# Altium footprint library node.PcbLib: 75 footprints (part 3 of 5)
Each footprint in its own frame and in the unit in brackets; x right, y up, seen from the top. Pads: shape width x height; smd on the part's side, far side on the other; paste and mask are expansions set on the pad; w line width, h text height; cw(c..) or ccw(c..) is an arc to the next point about the centre after c.
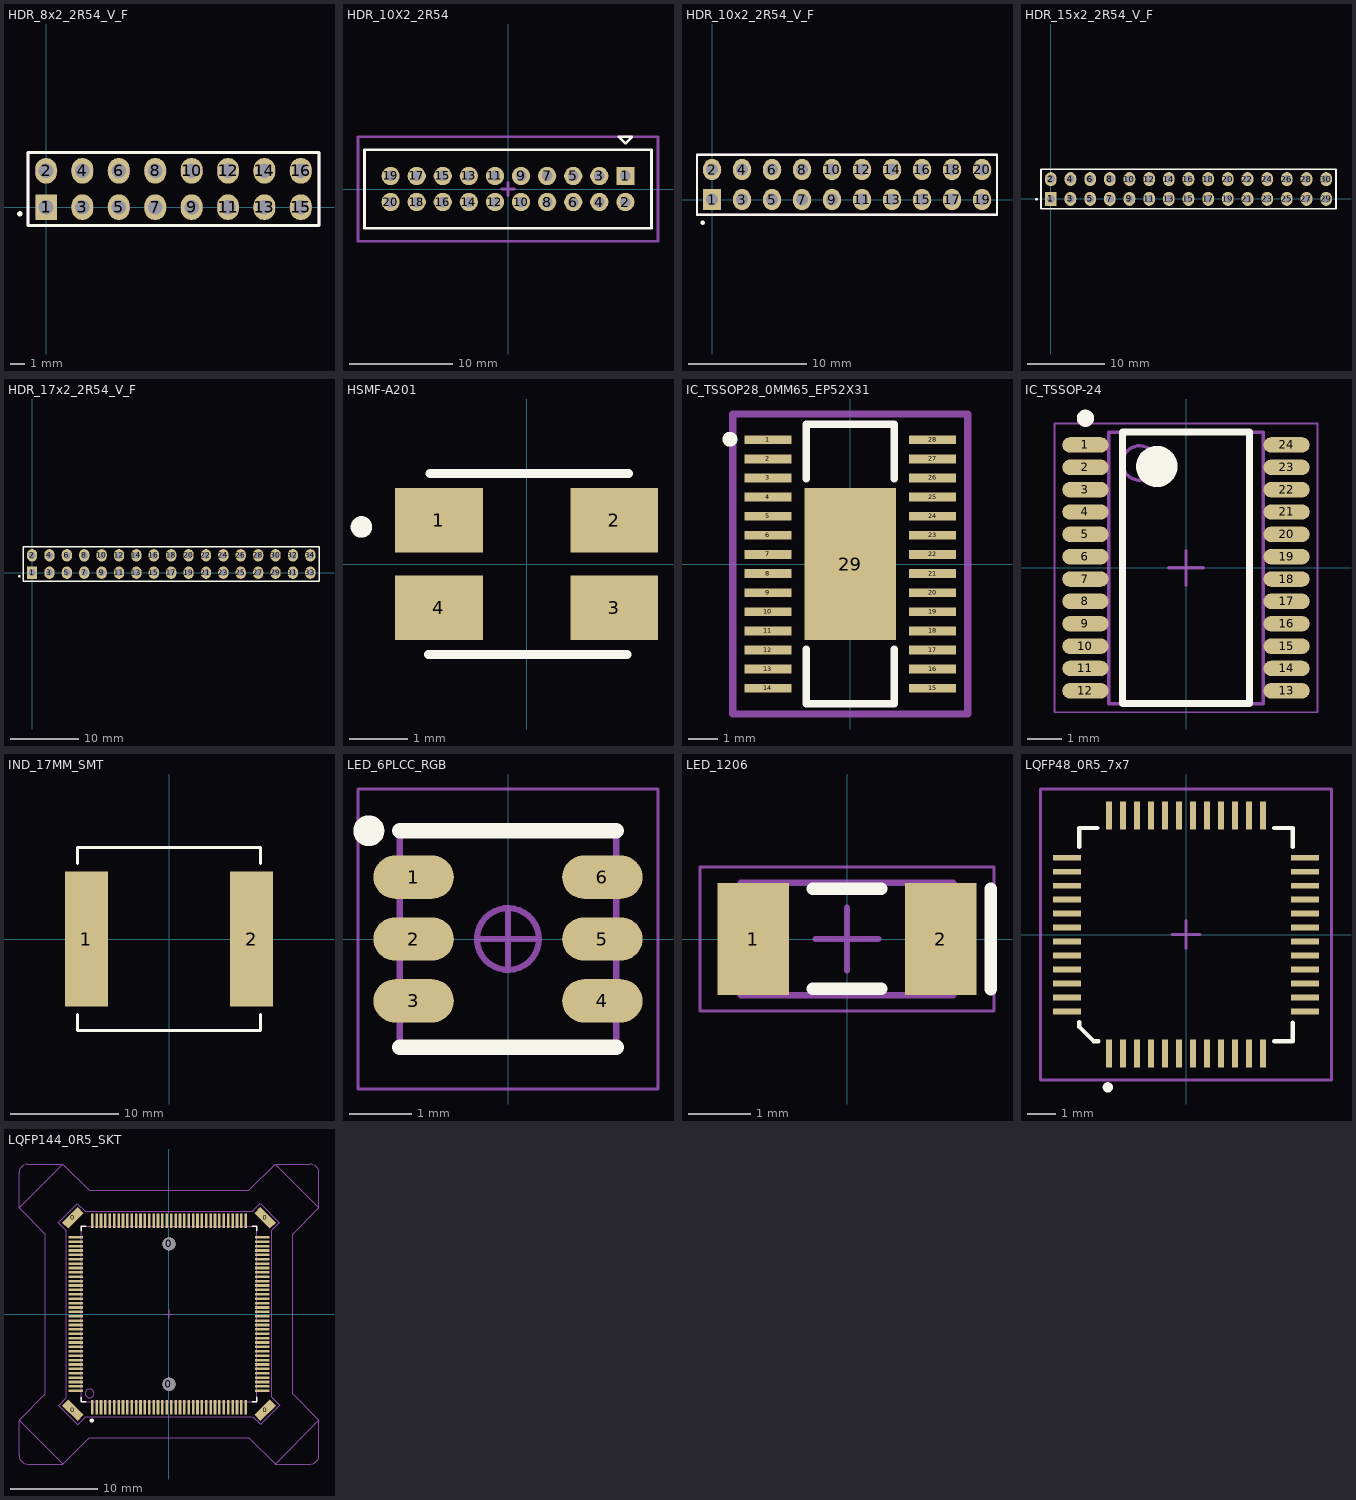
[diagram p2: the footprints below, top view; thin cyan lines are the x and y axes]

## HDR_8x2_2R54_V_F [mm] "Female Header, Pitch 2.54mm, 2x8 Position, Mated Height 6mm, Tail Length 3mm"
height 6
pads (16):
  rect 1.5x1.8 hole 1.02: 1(0,0)
  oval 1.5x1.8 hole 1.02: 2(0,2.54) 3(2.54,0) 4(2.54,2.54) 5(5.08,0) 6(5.08,2.54) 7(7.62,0) 8(7.62,2.54) 9(10.16,0) 10(10.16,2.54) 11(12.7,0) 12(12.7,2.54) 13(15.24,0) 14(15.24,2.54) 15(17.78,0) 16(17.78,2.54)
Top Overlay:
  circle w0.25: c-1.829,-0.465 r0.059
  lines w0.2: -1.27,-1.27 -1.27,3.81 19.05,3.81 19.05,-1.27 -1.27,-1.27
Mechanical 7:
  circle w0.2: c15.24,2.54 r0.684
  circle w0.2: c17.78,2.54 r0.684
  circle w0.2: c17.78,0 r0.684
  circle w0.2: c15.24,0 r0.684
  circle w0.2: c2.54,0 r0.684
  circle w0.2: c5.08,0 r0.684
  circle w0.2: c7.62,0 r0.684
  circle w0.2: c10.16,0 r0.684
  circle w0.2: c12.7,0 r0.684
  circle w0.2: c12.7,2.54 r0.684
  circle w0.2: c10.16,2.54 r0.684
  circle w0.2: c7.62,2.54 r0.684
  circle w0.2: c5.08,2.54 r0.684
  circle w0.2: c2.54,2.54 r0.684
  circle w0.2: c0,2.54 r0.684
  lines w0.2: -1.27,-1.27 -1.27,3.81 19.05,3.81 19.05,-1.27 -1.27,-1.27 ; -0.635,-0.635 -0.635,0.635 0.635,0.635 0.635,-0.635 -0.635,-0.635
3D body: height 2.54, standoff -10, extent 14.891,-0.349 15.589,0.349
3D body: height 8.64, standoff 0, extent 13.972,-1.27 16.512,1.27
3D body: height 2.54, standoff -10, extent 14.891,2.191 15.589,2.889
3D body: height 8.64, standoff 0, extent 13.972,1.27 16.512,3.81
3D body: height 2.54, standoff -10, extent 17.431,2.191 18.129,2.889
3D body: height 8.64, standoff 0, extent 16.512,1.27 19.052,3.81
3D body: height 2.54, standoff -10, extent 17.431,-0.349 18.129,0.349
3D body: height 8.64, standoff 0, extent 16.512,-1.27 19.052,1.27
3D body: height 8.64, standoff 0, extent 11.432,-1.27 13.972,1.27
3D body: height 2.54, standoff -10, extent 12.351,-0.349 13.049,0.349
3D body: height 8.64, standoff 0, extent 11.432,1.27 13.972,3.81
3D body: height 2.54, standoff -10, extent 12.351,2.191 13.049,2.889
3D body: height 8.64, standoff 0, extent 8.892,1.27 11.432,3.81
3D body: height 2.54, standoff -10, extent 9.811,2.191 10.509,2.889
3D body: height 8.64, standoff 0, extent 8.892,-1.27 11.432,1.27
3D body: height 2.54, standoff -10, extent 9.811,-0.349 10.509,0.349
3D body: height 8.64, standoff 0, extent 6.352,-1.27 8.892,1.27
3D body: height 2.54, standoff -10, extent 7.271,-0.349 7.969,0.349
3D body: height 8.64, standoff 0, extent 6.352,1.27 8.892,3.81
3D body: height 2.54, standoff -10, extent 7.271,2.191 7.969,2.889
3D body: height 8.64, standoff 0, extent 3.812,-1.27 6.352,1.27
3D body: height 2.54, standoff -10, extent 4.731,-0.349 5.429,0.349
3D body: height 8.64, standoff 0, extent 3.812,1.27 6.352,3.81
3D body: height 2.54, standoff -10, extent 4.731,2.191 5.429,2.889
3D body: height 8.64, standoff 0, extent 1.272,-1.27 3.812,1.27
3D body: height 2.54, standoff -10, extent 2.191,-0.349 2.889,0.349
3D body: height 8.64, standoff 0, extent 1.272,1.27 3.812,3.81
3D body: height 2.54, standoff -10, extent 2.191,2.191 2.889,2.889
3D body: height 8.64, standoff 0, extent -1.268,1.27 1.272,3.81
3D body: height 2.54, standoff -10, extent -0.349,2.191 0.349,2.889
3D body: height 8.64, standoff 0, extent -1.268,-1.27 1.272,1.27
3D body: height 2.54, standoff -10, extent -0.349,-0.349 0.349,0.349

## HDR_10X2_2R54 [mil]
pads (20):
  rect 70x70 hole 40: 1(450,50)
  round 70 hole 40: 2(450,-50) 3(350,50) 4(350,-50) 5(250,50) 6(250,-50) 7(150,50) 8(150,-50) 9(50,50) 10(50,-50) 11(-50,50) 12(-50,-50) 13(-150,50) 14(-150,-50) 15(-250,50) 16(-250,-50) 17(-350,50) 18(-350,-50) 19(-450,50) 20(-450,-50)
Top Overlay:
  lines w10: -550,-150 -550,150 550,150 550,-150 -550,-150 ; 425,200 450,175 475,200 425,200
M15 (Courtyard):
  lines w10: -25,0 25,0 ; 0,-25 0,25 ; -575,-200 575,-200 575,200 -575,200 -575,-200
3D body "HDR-20POS-SHROUDED-6272.stp": height 434.57, standoff -108.74, extent -553.54,-191.92 553.55,191.94

## HDR_10x2_2R54_V_F [mm] "Female Header, Pitch 2.54mm, 2x8 Position, Mated Height 6mm, Tail Length 3mm"
height 6
pads (20):
  rect 1.5x1.8 hole 1.02: 1(0,0)
  oval 1.5x1.8 hole 1.02: 2(0,2.54) 3(2.54,0) 4(2.54,2.54) 5(5.08,0) 6(5.08,2.54) 7(7.62,0) 8(7.62,2.54) 9(10.16,0) 10(10.16,2.54) 11(12.7,0) 12(12.7,2.54) 13(15.24,0) 14(15.24,2.54) 15(17.78,0) 16(17.78,2.54) 17(20.32,0) 18(20.32,2.54) 19(22.86,0) 20(22.86,2.54)
Top Overlay:
  circle w0.25: c-0.787,-1.96 r0.059
  lines w0.2: -1.27,-1.27 24.13,-1.27 24.13,3.81 -1.27,3.81 -1.27,-1.27
Mechanical 7:
  circle w0.2: c22.86,0 r0.684
  circle w0.2: c22.86,2.54 r0.684
  circle w0.2: c0,2.54 r0.684
  circle w0.2: c2.54,2.54 r0.684
  circle w0.2: c5.08,2.54 r0.684
  circle w0.2: c7.62,2.54 r0.684
  circle w0.2: c10.16,2.54 r0.684
  circle w0.2: c12.7,2.54 r0.684
  circle w0.2: c12.7,0 r0.684
  circle w0.2: c10.16,0 r0.684
  circle w0.2: c7.62,0 r0.684
  circle w0.2: c5.08,0 r0.684
  circle w0.2: c2.54,0 r0.684
  circle w0.2: c15.24,0 r0.684
  circle w0.2: c17.78,0 r0.684
  circle w0.2: c17.78,2.54 r0.684
  circle w0.2: c15.24,2.54 r0.684
  circle w0.2: c20.32,2.54 r0.684
  circle w0.2: c20.32,0 r0.684
  lines w0.2: -1.27,-1.27 24.13,-1.27 24.13,3.81 -1.27,3.81 -1.27,-1.27 ; -0.635,-0.635 0.635,-0.635 0.635,0.635 -0.635,0.635 -0.635,-0.635
3D body: height 8.64, standoff 0, extent 21.592,-1.27 24.132,1.27
3D body: height 2.54, standoff -10, extent 22.511,-0.349 23.209,0.349
3D body: height 8.64, standoff 0, extent 21.592,1.27 24.132,3.81
3D body: height 2.54, standoff -10, extent 22.511,2.191 23.209,2.889
3D body: height 2.54, standoff -10, extent -0.349,-0.349 0.349,0.349
3D body: height 8.64, standoff 0, extent -1.268,-1.27 1.272,1.27
3D body: height 2.54, standoff -10, extent -0.349,2.191 0.349,2.889
3D body: height 8.64, standoff 0, extent -1.268,1.27 1.272,3.81
3D body: height 2.54, standoff -10, extent 2.191,2.191 2.889,2.889
3D body: height 8.64, standoff 0, extent 1.272,1.27 3.812,3.81
3D body: height 2.54, standoff -10, extent 2.191,-0.349 2.889,0.349
3D body: height 8.64, standoff 0, extent 1.272,-1.27 3.812,1.27
3D body: height 2.54, standoff -10, extent 4.731,2.191 5.429,2.889
3D body: height 8.64, standoff 0, extent 3.812,1.27 6.352,3.81
3D body: height 2.54, standoff -10, extent 4.731,-0.349 5.429,0.349
3D body: height 8.64, standoff 0, extent 3.812,-1.27 6.352,1.27
3D body: height 2.54, standoff -10, extent 7.271,2.191 7.969,2.889
3D body: height 8.64, standoff 0, extent 6.352,1.27 8.892,3.81
3D body: height 2.54, standoff -10, extent 7.271,-0.349 7.969,0.349
3D body: height 8.64, standoff 0, extent 6.352,-1.27 8.892,1.27
3D body: height 2.54, standoff -10, extent 9.811,-0.349 10.509,0.349
3D body: height 8.64, standoff 0, extent 8.892,-1.27 11.432,1.27
3D body: height 2.54, standoff -10, extent 9.811,2.191 10.509,2.889
3D body: height 8.64, standoff 0, extent 8.892,1.27 11.432,3.81
3D body: height 2.54, standoff -10, extent 12.351,2.191 13.049,2.889
3D body: height 8.64, standoff 0, extent 11.432,1.27 13.972,3.81
3D body: height 2.54, standoff -10, extent 12.351,-0.349 13.049,0.349
3D body: height 8.64, standoff 0, extent 11.432,-1.27 13.972,1.27
3D body: height 8.64, standoff 0, extent 16.512,-1.27 19.052,1.27
3D body: height 2.54, standoff -10, extent 17.431,-0.349 18.129,0.349
3D body: height 8.64, standoff 0, extent 16.512,1.27 19.052,3.81
3D body: height 2.54, standoff -10, extent 17.431,2.191 18.129,2.889
3D body: height 8.64, standoff 0, extent 13.972,1.27 16.512,3.81
3D body: height 2.54, standoff -10, extent 14.891,2.191 15.589,2.889
3D body: height 8.64, standoff 0, extent 13.972,-1.27 16.512,1.27
3D body: height 2.54, standoff -10, extent 14.891,-0.349 15.589,0.349
3D body: height 2.54, standoff -10, extent 19.971,2.191 20.669,2.889
3D body: height 8.64, standoff 0, extent 19.052,1.27 21.592,3.81
3D body: height 2.54, standoff -10, extent 19.971,-0.349 20.669,0.349
3D body: height 8.64, standoff 0, extent 19.052,-1.27 21.592,1.27

## HDR_15x2_2R54_V_F [mm] "Female Header, Pitch 2.54mm, 2x15 Position, Mated Height 6mm, Tail Length 3mm"
height 6
pads (30):
  rect 1.5x1.8 hole 1.02: 1(0,0)
  oval 1.5x1.8 hole 1.02: 2(0,2.54) 3(2.54,0) 4(2.54,2.54) 5(5.08,0) 6(5.08,2.54) 7(7.62,0) 8(7.62,2.54) 9(10.16,0) 10(10.16,2.54) 11(12.7,0) 12(12.7,2.54) 13(15.24,0) 14(15.24,2.54) 15(17.78,0) 16(17.78,2.54) 17(20.32,0) 18(20.32,2.54) 19(22.86,0) 20(22.86,2.54) 21(25.4,0) 22(25.4,2.54) 23(27.94,0) 24(27.94,2.54) 25(30.48,0) 26(30.48,2.54) 27(33.02,0) 28(33.02,2.54) 29(35.56,0) 30(35.56,2.54)
Top Overlay:
  circle w0.25: c-1.854,-0.059 r0.059
  lines w0.2: -1.27,-1.27 -1.27,3.81 36.83,3.81 36.83,-1.27 -1.27,-1.27
3D body: height 8.64, standoff 0, extent 34.292,-1.27 36.832,1.27
3D body: height 2.54, standoff -10, extent 35.211,-0.349 35.909,0.349
3D body: height 8.64, standoff 0, extent 34.292,1.27 36.832,3.81
3D body: height 2.54, standoff -10, extent 35.211,2.191 35.909,2.889
3D body: height 2.54, standoff -10, extent 25.051,2.191 25.749,2.889
3D body: height 8.64, standoff 0, extent 24.132,1.27 26.672,3.81
3D body: height 2.54, standoff -10, extent 25.051,-0.349 25.749,0.349
3D body: height 8.64, standoff 0, extent 24.132,-1.27 26.672,1.27
3D body: height 8.64, standoff 0, extent 29.212,-1.27 31.752,1.27
3D body: height 2.54, standoff -10, extent 30.131,-0.349 30.829,0.349
3D body: height 8.64, standoff 0, extent 29.212,1.27 31.752,3.81
3D body: height 2.54, standoff -10, extent 30.131,2.191 30.829,2.889
3D body: height 8.64, standoff 0, extent 26.672,1.27 29.212,3.81
3D body: height 2.54, standoff -10, extent 27.591,2.191 28.289,2.889
3D body: height 8.64, standoff 0, extent 26.672,-1.27 29.212,1.27
3D body: height 2.54, standoff -10, extent 27.591,-0.349 28.289,0.349
3D body: height 2.54, standoff -10, extent 32.671,2.191 33.369,2.889
3D body: height 8.64, standoff 0, extent 31.752,1.27 34.292,3.81
3D body: height 2.54, standoff -10, extent 32.671,-0.349 33.369,0.349
3D body: height 8.64, standoff 0, extent 31.752,-1.27 34.292,1.27
3D body: height 8.64, standoff 0, extent 19.052,-1.27 21.592,1.27
3D body: height 2.54, standoff -10, extent 19.971,-0.349 20.669,0.349
3D body: height 8.64, standoff 0, extent 19.052,1.27 21.592,3.81
3D body: height 2.54, standoff -10, extent 19.971,2.191 20.669,2.889
3D body: height 2.54, standoff -10, extent 14.891,-0.349 15.589,0.349
3D body: height 8.64, standoff 0, extent 13.972,-1.27 16.512,1.27
3D body: height 2.54, standoff -10, extent 14.891,2.191 15.589,2.889
3D body: height 8.64, standoff 0, extent 13.972,1.27 16.512,3.81
3D body: height 2.54, standoff -10, extent 17.431,2.191 18.129,2.889
3D body: height 8.64, standoff 0, extent 16.512,1.27 19.052,3.81
3D body: height 2.54, standoff -10, extent 17.431,-0.349 18.129,0.349
3D body: height 8.64, standoff 0, extent 16.512,-1.27 19.052,1.27
3D body: height 8.64, standoff 0, extent 11.432,-1.27 13.972,1.27
3D body: height 2.54, standoff -10, extent 12.351,-0.349 13.049,0.349
3D body: height 8.64, standoff 0, extent 11.432,1.27 13.972,3.81
3D body: height 2.54, standoff -10, extent 12.351,2.191 13.049,2.889
3D body: height 8.64, standoff 0, extent 8.892,1.27 11.432,3.81
3D body: height 2.54, standoff -10, extent 9.811,2.191 10.509,2.889
3D body: height 8.64, standoff 0, extent 8.892,-1.27 11.432,1.27
3D body: height 2.54, standoff -10, extent 9.811,-0.349 10.509,0.349
3D body: height 8.64, standoff 0, extent 6.352,-1.27 8.892,1.27
3D body: height 2.54, standoff -10, extent 7.271,-0.349 7.969,0.349
3D body: height 8.64, standoff 0, extent 6.352,1.27 8.892,3.81
3D body: height 2.54, standoff -10, extent 7.271,2.191 7.969,2.889
3D body: height 8.64, standoff 0, extent 3.812,-1.27 6.352,1.27
3D body: height 2.54, standoff -10, extent 4.731,-0.349 5.429,0.349
3D body: height 8.64, standoff 0, extent 3.812,1.27 6.352,3.81
3D body: height 2.54, standoff -10, extent 4.731,2.191 5.429,2.889
3D body: height 8.64, standoff 0, extent 1.272,-1.27 3.812,1.27
3D body: height 2.54, standoff -10, extent 2.191,-0.349 2.889,0.349
3D body: height 8.64, standoff 0, extent 1.272,1.27 3.812,3.81
3D body: height 2.54, standoff -10, extent 2.191,2.191 2.889,2.889
3D body: height 8.64, standoff 0, extent -1.268,1.27 1.272,3.81
3D body: height 2.54, standoff -10, extent -0.349,2.191 0.349,2.889
3D body: height 8.64, standoff 0, extent -1.268,-1.27 1.272,1.27
3D body: height 2.54, standoff -10, extent -0.349,-0.349 0.349,0.349
3D body: height 2.54, standoff -10, extent 22.511,2.191 23.209,2.889
3D body: height 8.64, standoff 0, extent 21.592,1.27 24.132,3.81
3D body: height 2.54, standoff -10, extent 22.511,-0.349 23.209,0.349
3D body: height 8.64, standoff 0, extent 21.592,-1.27 24.132,1.27

## HDR_17x2_2R54_V_F [mm] "Female Header, Pitch 2.54mm, 2x17 Position, Mated Height 6mm, Tail Length 3mm"
height 6
pads (34):
  rect 1.5x1.8 hole 1.02: 1(0,0)
  oval 1.5x1.8 hole 1.02: 2(0,2.54) 3(2.54,0) 4(2.54,2.54) 5(5.08,0) 6(5.08,2.54) 7(7.62,0) 8(7.62,2.54) 9(10.16,0) 10(10.16,2.54) 11(12.7,0) 12(12.7,2.54) 13(15.24,0) 14(15.24,2.54) 15(17.78,0) 16(17.78,2.54) 17(20.32,0) 18(20.32,2.54) 19(22.86,0) 20(22.86,2.54) 21(25.4,0) 22(25.4,2.54) 23(27.94,0) 24(27.94,2.54) 25(30.48,0) 26(30.48,2.54) 27(33.02,0) 28(33.02,2.54) 29(35.56,0) 30(35.56,2.54) 31(38.1,0) 32(38.1,2.54) 33(40.64,0) 34(40.64,2.54)
Top Overlay:
  circle w0.25: c-1.854,-0.516 r0.059
  lines w0.2: -1.27,-1.27 41.91,-1.27 41.91,3.81 -1.27,3.81 -1.27,-1.27
3D body: height 8.64, standoff 0, extent 39.372,-1.27 41.912,1.27
3D body: height 2.54, standoff -10, extent 40.291,-0.349 40.989,0.349
3D body: height 8.64, standoff 0, extent 39.372,1.27 41.912,3.81
3D body: height 2.54, standoff -10, extent 40.291,2.191 40.989,2.889
3D body: height 2.54, standoff -10, extent 37.751,2.191 38.449,2.889
3D body: height 8.64, standoff 0, extent 36.832,1.27 39.372,3.81
3D body: height 2.54, standoff -10, extent 37.751,-0.349 38.449,0.349
3D body: height 8.64, standoff 0, extent 36.832,-1.27 39.372,1.27
3D body: height 8.64, standoff 0, extent 21.592,-1.27 24.132,1.27
3D body: height 2.54, standoff -10, extent 22.511,-0.349 23.209,0.349
3D body: height 8.64, standoff 0, extent 21.592,1.27 24.132,3.81
3D body: height 2.54, standoff -10, extent 22.511,2.191 23.209,2.889
3D body: height 2.54, standoff -10, extent -0.349,-0.349 0.349,0.349
3D body: height 8.64, standoff 0, extent -1.268,-1.27 1.272,1.27
3D body: height 2.54, standoff -10, extent -0.349,2.191 0.349,2.889
3D body: height 8.64, standoff 0, extent -1.268,1.27 1.272,3.81
3D body: height 2.54, standoff -10, extent 2.191,2.191 2.889,2.889
3D body: height 8.64, standoff 0, extent 1.272,1.27 3.812,3.81
3D body: height 2.54, standoff -10, extent 2.191,-0.349 2.889,0.349
3D body: height 8.64, standoff 0, extent 1.272,-1.27 3.812,1.27
3D body: height 2.54, standoff -10, extent 4.731,2.191 5.429,2.889
3D body: height 8.64, standoff 0, extent 3.812,1.27 6.352,3.81
3D body: height 2.54, standoff -10, extent 4.731,-0.349 5.429,0.349
3D body: height 8.64, standoff 0, extent 3.812,-1.27 6.352,1.27
3D body: height 2.54, standoff -10, extent 7.271,2.191 7.969,2.889
3D body: height 8.64, standoff 0, extent 6.352,1.27 8.892,3.81
3D body: height 2.54, standoff -10, extent 7.271,-0.349 7.969,0.349
3D body: height 8.64, standoff 0, extent 6.352,-1.27 8.892,1.27
3D body: height 2.54, standoff -10, extent 9.811,-0.349 10.509,0.349
3D body: height 8.64, standoff 0, extent 8.892,-1.27 11.432,1.27
3D body: height 2.54, standoff -10, extent 9.811,2.191 10.509,2.889
3D body: height 8.64, standoff 0, extent 8.892,1.27 11.432,3.81
3D body: height 2.54, standoff -10, extent 12.351,2.191 13.049,2.889
3D body: height 8.64, standoff 0, extent 11.432,1.27 13.972,3.81
3D body: height 2.54, standoff -10, extent 12.351,-0.349 13.049,0.349
3D body: height 8.64, standoff 0, extent 11.432,-1.27 13.972,1.27
3D body: height 8.64, standoff 0, extent 16.512,-1.27 19.052,1.27
3D body: height 2.54, standoff -10, extent 17.431,-0.349 18.129,0.349
3D body: height 8.64, standoff 0, extent 16.512,1.27 19.052,3.81
3D body: height 2.54, standoff -10, extent 17.431,2.191 18.129,2.889
3D body: height 8.64, standoff 0, extent 13.972,1.27 16.512,3.81
3D body: height 2.54, standoff -10, extent 14.891,2.191 15.589,2.889
3D body: height 8.64, standoff 0, extent 13.972,-1.27 16.512,1.27
3D body: height 2.54, standoff -10, extent 14.891,-0.349 15.589,0.349
3D body: height 2.54, standoff -10, extent 19.971,2.191 20.669,2.889
3D body: height 8.64, standoff 0, extent 19.052,1.27 21.592,3.81
3D body: height 2.54, standoff -10, extent 19.971,-0.349 20.669,0.349
3D body: height 8.64, standoff 0, extent 19.052,-1.27 21.592,1.27
3D body: height 8.64, standoff 0, extent 31.752,-1.27 34.292,1.27
3D body: height 2.54, standoff -10, extent 32.671,-0.349 33.369,0.349
3D body: height 8.64, standoff 0, extent 31.752,1.27 34.292,3.81
3D body: height 2.54, standoff -10, extent 32.671,2.191 33.369,2.889
3D body: height 2.54, standoff -10, extent 27.591,-0.349 28.289,0.349
3D body: height 8.64, standoff 0, extent 26.672,-1.27 29.212,1.27
3D body: height 2.54, standoff -10, extent 27.591,2.191 28.289,2.889
3D body: height 8.64, standoff 0, extent 26.672,1.27 29.212,3.81
3D body: height 2.54, standoff -10, extent 30.131,2.191 30.829,2.889
3D body: height 8.64, standoff 0, extent 29.212,1.27 31.752,3.81
3D body: height 2.54, standoff -10, extent 30.131,-0.349 30.829,0.349
3D body: height 8.64, standoff 0, extent 29.212,-1.27 31.752,1.27
3D body: height 8.64, standoff 0, extent 24.132,-1.27 26.672,1.27
3D body: height 2.54, standoff -10, extent 25.051,-0.349 25.749,0.349
3D body: height 8.64, standoff 0, extent 24.132,1.27 26.672,3.81
3D body: height 2.54, standoff -10, extent 25.051,2.191 25.749,2.889
3D body: height 2.54, standoff -10, extent 35.211,2.191 35.909,2.889
3D body: height 8.64, standoff 0, extent 34.292,1.27 36.832,3.81
3D body: height 2.54, standoff -10, extent 35.211,-0.349 35.909,0.349
3D body: height 8.64, standoff 0, extent 34.292,-1.27 36.832,1.27

## HSMF-A201 [mm] "LED"
height 1.2
pads (4):
  rect 1.5x1.1 smd: 1(-1.5,0.75) 2(1.5,0.75) 3(1.5,-0.75) 4(-1.5,-0.75)
Top Overlay:
  circle w0.25: c-2.827,0.635 r0.059
  lines w0.152: -1.676,-1.549 1.724,-1.549 ; -1.651,1.549 1.749,1.549
3D body: height 1.2, standoff 0.1, extent -1.6,-1.4 1.6,1.4

## IC_TSSOP28_0MM65_EP52X31 [mm]
height 1.2
pads (29):
  rect 1.6x0.3 smd: 1(-2.8,4.225) 2(-2.8,3.575) 3(-2.8,2.925) 4(-2.8,2.275) 5(-2.8,1.625) 6(-2.8,0.975) 7(-2.8,0.325) 8(-2.8,-0.325) 9(-2.8,-0.975) 10(-2.8,-1.625) 11(-2.8,-2.275) 12(-2.8,-2.925) 13(-2.8,-3.575) 14(-2.8,-4.225) 15(2.8,-4.225) 16(2.8,-3.575) 17(2.8,-2.925) 18(2.8,-2.275) 19(2.8,-1.625) 20(2.8,-0.975) 21(2.8,-0.325) 22(2.8,0.325) 23(2.8,0.975) 24(2.8,1.625) 25(2.8,2.275) 26(2.8,2.925) 27(2.8,3.575) 28(2.8,4.225)
  rect 3.1x5.18 smd: 29(0,0)
Top Overlay:
  circle w0.254: c-4.089,4.242 r0.127
  lines w0.254: -1.5,-2.9 -1.5,-4.75 1.5,-4.75 1.5,-2.9 ; -1.5,2.9 -1.5,4.75 1.5,4.75 1.5,2.9
M15 (Courtyard):
  lines w0.254: -0.65,0 0.65,0 ; 0,-0.65 0,0.65 ; -4,-5.1 -4,5.1 4,5.1 4,-5.1 -4,-5.1
3D body "User Library-TSSOP-28.STEP": height 1.2, standoff 0, extent -3.2,-4.85 3.2,4.85

## IC_TSSOP-24 [mm] "TSOP, 24-Leads, Body 7.80x4.40mm, Pitch 0.65mm, IPC Medium Density"
height 1.1
pads (24):
  oval 1.35x0.45 smd: 1(-2.925,3.575) 2(-2.925,2.925) 3(-2.925,2.275) 4(-2.925,1.625) 5(-2.925,0.975) 6(-2.925,0.325) 7(-2.925,-0.325) 8(-2.925,-0.975) 9(-2.925,-1.625) 10(-2.925,-2.275) 11(-2.925,-2.925) 12(-2.925,-3.575) 13(2.925,-3.575) 14(2.925,-2.925) 15(2.925,-2.275) 16(2.925,-1.625) 17(2.925,-0.975) 18(2.925,-0.325) 19(2.925,0.325) 20(2.925,0.975) 21(2.925,1.625) 22(2.925,2.275) 23(2.925,2.925) 24(2.925,3.575)
Top Overlay:
  circle w0.6: c-0.85,2.95 r0.3
  circle w0.25: c-2.925,4.35 r0.125
  lines w0.2: -1.85,-3.95 1.85,-3.95 1.85,3.95 -1.85,3.95 -1.85,-3.95
M13 (3D Body):
  circle w0.1: c-1.35,3.05 r0.5
  lines w0.1: -2.25,-3.95 2.25,-3.95 2.25,3.95 -2.25,3.95 -2.25,-3.95
M15 (Courtyard):
  lines w0.05: -3.825,-4.2 3.825,-4.2 3.825,4.2 -3.825,4.2 -3.825,-4.2
  lines w0.1: -0.5,0 0.5,0 ; 0,-0.5 0,0.5
3D body "User Library-TSSOP-24.STEP": height 1.2, standoff 0, extent -3.2,-3.9 3.2,3.9

## IND_17MM_SMT [mm]
pads (2):
  rect 4x12.5 smd: 1(-7.675,0) 2(7.675,0)
Top Overlay:
  lines w0.254: -8.5,-7 -8.5,-8.5 8.5,-8.5 8.5,-7 ; -8.5,7 -8.5,8.5 8.5,8.5 8.5,7
3D body: height 4, standoff 0.1, extent 8,-6 9,6
3D body: height 6.81, standoff 0, extent 10,6 10,6
3D body: height 7, standoff 0.1, extent -8.5,-8.5 8.5,8.5
3D body: height 4, standoff 0.1, extent -9,-6 -8,6

## LED_6PLCC_RGB [mm] "Leaded Chip Carrier, 8-Leads, Body 3.55x3.50mm, Pitch 1.000mm, IPC Medium Density"
height 3
pads (6):
  oval 1.3x0.7 smd: 1(-1.525,1) 2(-1.525,0) 3(-1.525,-1) 4(1.525,-1) 5(1.525,0) 6(1.525,1)
Top Overlay:
  circle w0.25: c-2.25,1.75 r0.125
  lines w0.254: -1.75,-1.75 1.75,-1.75 ; -1.75,1.75 1.75,1.75
M13 (3D Body):
  circle w0.1: c0,0 r0.5
  lines w0.1: -1.75,-1.75 1.75,-1.75 1.75,1.75 -1.75,1.75 -1.75,-1.75
M15 (Courtyard):
  lines w0.05: -2.425,-2.425 2.425,-2.425 2.425,2.425 -2.425,2.425 -2.425,-2.425
  lines w0.1: -0.5,0 0.5,0 ; 0,-0.5 0,0.5
3D body: height 2.9, standoff 2.6, extent -1.25,-1.25 1.25,1.25
3D body: height 0.25, standoff -4.44, extent -1.25,1.25 -1.25,1.25
3D body: height 2.8, standoff 1.51, extent -1.75,-1.75 1.75,1.75
3D body: height 1.5, standoff 0.2, extent -1.75,-1.75 1.75,1.75

## LED_1206 [mm] "Chip Capacitor, Body 3.2x1.6mm, Height 1mm, IPC Medium Density"
height 2
pads (2):
  rect 1.15x1.8 smd: 1(-1.5,0) 2(1.5,0)
Top Overlay:
  lines w0.2: -0.55,-0.8 0.55,-0.8 ; -0.55,0.8 0.55,0.8 ; 2.3,-0.8 2.3,0.8
M13 (3D Body):
  lines w0.1: -1.7,-0.9 1.7,-0.9 1.7,0.9 -1.7,0.9 -1.7,-0.9
M15 (Courtyard):
  lines w0.05: -2.35,-1.15 2.35,-1.15 2.35,1.15 -2.35,1.15 -2.35,-1.15
  lines w0.1: -0.5,0 0.5,0 ; 0,-0.5 0,0.5
3D body "User Library-FYLS-1206.step": height 1.1, standoff 0, extent -1.548,-0.79 1.652,0.81

## LQFP48_0R5_7x7 [mm] "Low & medium-density value line, advanced ARM-based 32-bit MCU"
height 1.6
pads (48):
  rect 0.2x1 smd: 1(-2.75,-4.25) 2(-2.25,-4.25) 3(-1.75,-4.25) 4(-1.25,-4.25) 5(-0.75,-4.25) 6(-0.25,-4.25) 7(0.25,-4.25) 8(0.75,-4.25) 9(1.25,-4.25) 10(1.75,-4.25) 11(2.25,-4.25) 12(2.75,-4.25) 25(2.75,4.25) 26(2.25,4.25) 27(1.75,4.25) 28(1.25,4.25) 29(0.75,4.25) 30(0.25,4.25) 31(-0.25,4.25) 32(-0.75,4.25) 33(-1.25,4.25) 34(-1.75,4.25) 35(-2.25,4.25) 36(-2.75,4.25)
  rect 1x0.2 smd: 13(4.25,-2.75) 14(4.25,-2.25) 15(4.25,-1.75) 16(4.25,-1.25) 17(4.25,-0.75) 18(4.25,-0.25) 19(4.25,0.25) 20(4.25,0.75) 21(4.25,1.25) 22(4.25,1.75) 23(4.25,2.25) 24(4.25,2.75) 37(-4.25,2.75) 38(-4.25,2.25) 39(-4.25,1.75) 40(-4.25,1.25) 41(-4.25,0.75) 42(-4.25,0.25) 43(-4.25,-0.25) 44(-4.25,-0.75) 45(-4.25,-1.25) 46(-4.25,-1.75) 47(-4.25,-2.25) 48(-4.25,-2.75)
Top Overlay:
  circle w0.25: c-2.792,-5.461 r0.059
  lines w0.152: -3.81,-3.124 -3.81,-3.302 -3.302,-3.81 -3.124,-3.81 ; -3.81,3.124 -3.81,3.81 -3.175,3.81 ; 3.15,-3.81 3.81,-3.81 3.81,-3.15 ; 3.15,3.81 3.81,3.81 3.81,3.124
M15 (Courtyard):
  lines w0.1: -0.5,0 0.5,0 ; 0,-0.5 0,0.5 ; -5.2,-5.2 -5.2,5.2 5.2,5.2 5.2,-5.2 -5.2,-5.2
3D body: height 1.6, standoff 0.15, extent -3.5,-3.5 3.5,3.5

## LQFP144_0R5_SKT [mm] "32-bit MCU ARM-based Cortex-M3 20 X 20mm, 0.5mm Pitch, 1.6mm Max thickness"
height 1.6
pads (150):
  rect 1x2.5 smd rot 45: 0(-10.96,-10.96) 0(10.96,10.96)
  rect 1x2.5 smd rot 135: 0(-10.96,10.96) 0(10.96,-10.96)
  round 1.5 hole 1.5 unplated: 0(0,-8) 0(0,8)
  rect 0.3x1.65 smd: 1(-8.75,-10.625) 2(-8.25,-10.625) 3(-7.75,-10.625) 4(-7.25,-10.625) 5(-6.75,-10.625) 6(-6.25,-10.625) 7(-5.75,-10.625) 8(-5.25,-10.625) 9(-4.75,-10.625) 10(-4.25,-10.625) 11(-3.75,-10.625) 12(-3.25,-10.625) 13(-2.75,-10.625) 14(-2.25,-10.625) 15(-1.75,-10.625) 16(-1.25,-10.625) 17(-0.75,-10.625) 18(-0.25,-10.625) 19(0.25,-10.625) 20(0.75,-10.625) 21(1.25,-10.625) 22(1.75,-10.625) 23(2.25,-10.625) 24(2.75,-10.625) 25(3.25,-10.625) 26(3.75,-10.625) 27(4.25,-10.625) 28(4.75,-10.625) 29(5.25,-10.625) 30(5.75,-10.625) 31(6.25,-10.625) 32(6.75,-10.625) 33(7.25,-10.625) 34(7.75,-10.625) 35(8.25,-10.625) 36(8.75,-10.625) 73(8.75,10.625) 74(8.25,10.625) 75(7.75,10.625) 76(7.25,10.625) 77(6.75,10.625) 78(6.25,10.625) 79(5.75,10.625) 80(5.25,10.625) 81(4.75,10.625) 82(4.25,10.625) 83(3.75,10.625) 84(3.25,10.625) 85(2.75,10.625) 86(2.25,10.625) 87(1.75,10.625) 88(1.25,10.625) 89(0.75,10.625) 90(0.25,10.625) 91(-0.25,10.625) 92(-0.75,10.625) 93(-1.25,10.625) 94(-1.75,10.625) 95(-2.25,10.625) 96(-2.75,10.625) 97(-3.25,10.625) 98(-3.75,10.625) 99(-4.25,10.625) 100(-4.75,10.625) 101(-5.25,10.625) 102(-5.75,10.625) 103(-6.25,10.625) 104(-6.75,10.625) 105(-7.25,10.625) 106(-7.75,10.625) 107(-8.25,10.625) 108(-8.75,10.625)
  rect 1.65x0.3 smd: 37(10.625,-8.75) 38(10.625,-8.25) 39(10.625,-7.75) 40(10.625,-7.25) 41(10.625,-6.75) 42(10.625,-6.25) 43(10.625,-5.75) 44(10.625,-5.25) 45(10.625,-4.75) 46(10.625,-4.25) 47(10.625,-3.75) 48(10.625,-3.25) 49(10.625,-2.75) 50(10.625,-2.25) 51(10.625,-1.75) 52(10.625,-1.25) 53(10.625,-0.75) 54(10.625,-0.25) 55(10.625,0.25) 56(10.625,0.75) 57(10.625,1.25) 58(10.625,1.75) 59(10.625,2.25) 60(10.625,2.75) 61(10.625,3.25) 62(10.625,3.75) 63(10.625,4.25) 64(10.625,4.75) 65(10.625,5.25) 66(10.625,5.75) 67(10.625,6.25) 68(10.625,6.75) 69(10.625,7.25) 70(10.625,7.75) 71(10.625,8.25) 72(10.625,8.75) 109(-10.625,8.75) 110(-10.625,8.25) 111(-10.625,7.75) 112(-10.625,7.25) 113(-10.625,6.75) 114(-10.625,6.25) 115(-10.625,5.75) 116(-10.625,5.25) 117(-10.625,4.75) 118(-10.625,4.25) 119(-10.625,3.75) 120(-10.625,3.25) 121(-10.625,2.75) 122(-10.625,2.25) 123(-10.625,1.75) 124(-10.625,1.25) 125(-10.625,0.75) 126(-10.625,0.25) 127(-10.625,-0.25) 128(-10.625,-0.75) 129(-10.625,-1.25) 130(-10.625,-1.75) 131(-10.625,-2.25) 132(-10.625,-2.75) 133(-10.625,-3.25) 134(-10.625,-3.75) 135(-10.625,-4.25) 136(-10.625,-4.75) 137(-10.625,-5.25) 138(-10.625,-5.75) 139(-10.625,-6.25) 140(-10.625,-6.75) 141(-10.625,-7.25) 142(-10.625,-7.75) 143(-10.625,-8.25) 144(-10.625,-8.75)
Top Overlay:
  circle w0.25: c-8.812,-12.141 r0.125
  lines w0.2: -10,-9.5 -10,-10 -9.5,-10 ; -10,9.5 -10,10 -9.5,10 ; 9.5,-10 10,-10 10,-9.5 ; 9.5,10 10,10 10,9.5
M13 (3D Body):
  circle w0.1: c-9.05,-9.05 r0.5
  lines w0.1: -10,-10 -10,10 10,10 10,-10 -10,-10
  lines w0.127: -17.1,-12.1 -17.1,-16.1 ccw(c-16.1,-16.1) -16.1,-17.1 -12.1,-17.1 ; -16.1,17.1 ccw(c-16.1,16.1) -17.1,16.1 -17.1,12.1 ; -16.1,17.109 -12.1,17.109 -17.1,12.109 -17.1,12.1 ; -14.1,-9.1 -14.1,9.1 -17.1,12.1 ; -14.096,-9.092 -17.096,-12.092 -12.096,-17.092 ; -12.092,17.104 -9.092,14.104 ; -9.1,14.109 9.1,14.109 12.1,17.109 ; 9.092,-14.096 12.092,-17.096 ; 9.1,-14.1 -9.1,-14.1 -12.1,-17.1 ; 12.096,17.092 17.096,12.092 14.096,9.092 ; 14.1,9.1 14.1,-9.1 17.1,-12.1 ; 16.1,17.1 cw(c16.1,16.1) 17.1,16.1 17.1,12.1 ; 16.1,17.109 12.1,17.109 ; -17.1,12.1 -17.1,12.1 ; -12.1,-17.1 -12.1,-17.1 ; 12.1,17.109 12.1,17.109 ; 17.1,-12.1 17.1,-16.1 cw(c16.1,-16.1) 16.1,-17.1 12.1,-17.1 17.1,-12.1 ; 17.1,-12.1 17.1,-12.1
M15 (Courtyard):
  lines w0.1: -11.7,-9.541 -12.596,-10.437 -10.422,-12.611 -9.511,-11.7 ; -11.7,-9.5 -11.7,9.5 ; -11.7,9.511 -12.611,10.422 -10.437,12.596 -9.541,11.7 ; -9.5,-11.7 9.5,-11.7 ; -9.5,11.7 9.5,11.7 ; -0.5,0 0.5,0 ; 0,-0.5 0,0.5 ; 9.511,11.7 10.422,12.611 12.596,10.437 11.7,9.541 ; 9.541,-11.7 10.437,-12.596 12.611,-10.422 11.7,-9.511 ; 11.7,-9.5 11.7,9.5
3D body: height 7, standoff 0, extent 10.269,-8.852 10.371,-8.648
3D body: height 0.1, standoff 0, extent 10.371,-8.852 10.93,-8.648
3D body: height 0.1, standoff 0, extent 10.371,-8.352 10.93,-8.148
3D body: height 7, standoff 0, extent 10.269,-8.352 10.371,-8.148
3D body: height 0.1, standoff 0, extent 10.371,-7.852 10.93,-7.648
3D body: height 7, standoff 0, extent 10.269,-7.852 10.371,-7.648
3D body: height 0.1, standoff 0, extent 10.371,-7.352 10.93,-7.148
3D body: height 7, standoff 0, extent 10.269,-7.352 10.371,-7.148
3D body: height 0.1, standoff 0, extent 10.371,-6.852 10.93,-6.648
3D body: height 7, standoff 0, extent 10.269,-6.852 10.371,-6.648
3D body: height 0.1, standoff 0, extent 10.371,-6.352 10.93,-6.148
3D body: height 7, standoff 0, extent 10.269,-6.352 10.371,-6.148
3D body: height 0.1, standoff 0, extent 10.371,-6.352 10.93,-6.148
3D body: height 7, standoff 0, extent 10.269,-6.352 10.371,-6.148
3D body: height 0.1, standoff 0, extent 10.371,-5.852 10.93,-5.648
3D body: height 7, standoff 0, extent 10.269,-5.852 10.371,-5.648
3D body: height 0.1, standoff 0, extent 10.371,-5.352 10.93,-5.148
3D body: height 7, standoff 0, extent 10.269,-5.352 10.371,-5.148
3D body: height 0.1, standoff 0, extent 10.371,-4.852 10.93,-4.648
3D body: height 7, standoff 0, extent 10.269,-4.852 10.371,-4.648
3D body: height 0.1, standoff 0, extent 10.371,-4.352 10.93,-4.148
3D body: height 7, standoff 0, extent 10.269,-4.352 10.371,-4.148
3D body: height 0.1, standoff 0, extent 10.371,-3.852 10.93,-3.648
3D body: height 7, standoff 0, extent 10.269,-3.852 10.371,-3.648
3D body: height 0.1, standoff 0, extent 10.371,-3.352 10.93,-3.148
3D body: height 7, standoff 0, extent 10.269,-3.352 10.371,-3.148
3D body: height 0.1, standoff 0, extent 10.371,-2.852 10.93,-2.648
3D body: height 7, standoff 0, extent 10.269,-2.852 10.371,-2.648
3D body: height 0.1, standoff 0, extent 10.371,-2.352 10.93,-2.148
3D body: height 7, standoff 0, extent 10.269,-2.352 10.371,-2.148
3D body: height 0.1, standoff 0, extent 10.371,-1.852 10.93,-1.648
3D body: height 7, standoff 0, extent 10.269,-1.852 10.371,-1.648
3D body: height 0.1, standoff 0, extent 10.371,-1.352 10.93,-1.148
3D body: height 7, standoff 0, extent 10.269,-1.352 10.371,-1.148
3D body: height 0.1, standoff 0, extent 10.371,-0.852 10.93,-0.648
3D body: height 7, standoff 0, extent 10.269,-0.852 10.371,-0.648
3D body: height 0.1, standoff 0, extent 10.371,-0.352 10.93,-0.148
3D body: height 7, standoff 0, extent 10.269,-0.352 10.371,-0.148
3D body: height 0.1, standoff 0, extent 10.371,0.148 10.93,0.352
3D body: height 7, standoff 0, extent 10.269,0.148 10.371,0.352
3D body: height 0.1, standoff 0, extent 10.371,0.648 10.93,0.852
3D body: height 7, standoff 0, extent 10.269,0.648 10.371,0.852
3D body: height 0.1, standoff 0, extent 10.371,1.148 10.93,1.352
3D body: height 7, standoff 0, extent 10.269,1.148 10.371,1.352
3D body: height 0.1, standoff 0, extent 10.371,1.648 10.93,1.852
3D body: height 7, standoff 0, extent 10.269,1.648 10.371,1.852
3D body: height 0.1, standoff 0, extent 10.371,2.148 10.93,2.352
3D body: height 7, standoff 0, extent 10.269,2.148 10.371,2.352
3D body: height 0.1, standoff 0, extent 10.371,2.648 10.93,2.852
3D body: height 7, standoff 0, extent 10.269,2.648 10.371,2.852
3D body: height 0.1, standoff 0, extent 10.371,3.148 10.93,3.352
3D body: height 7, standoff 0, extent 10.269,3.148 10.371,3.352
3D body: height 0.1, standoff 0, extent 10.371,3.648 10.93,3.852
3D body: height 7, standoff 0, extent 10.269,3.648 10.371,3.852
3D body: height 0.1, standoff 0, extent 10.371,4.148 10.93,4.352
3D body: height 7, standoff 0, extent 10.269,4.148 10.371,4.352
3D body: height 0.1, standoff 0, extent 10.371,4.648 10.93,4.852
3D body: height 7, standoff 0, extent 10.269,4.648 10.371,4.852
3D body: height 0.1, standoff 0, extent 10.371,5.148 10.93,5.352
3D body: height 7, standoff 0, extent 10.269,5.148 10.371,5.352
3D body: height 0.1, standoff 0, extent 10.371,5.648 10.93,5.852
3D body: height 7, standoff 0, extent 10.269,5.648 10.371,5.852
3D body: height 0.1, standoff 0, extent 10.371,6.148 10.93,6.352
3D body: height 7, standoff 0, extent 10.269,6.148 10.371,6.352
3D body: height 0.1, standoff 0, extent 10.371,6.648 10.93,6.852
3D body: height 7, standoff 0, extent 10.269,6.648 10.371,6.852
3D body: height 0.1, standoff 0, extent 10.371,7.148 10.93,7.352
3D body: height 7, standoff 0, extent 10.269,7.148 10.371,7.352
3D body: height 0.1, standoff 0, extent 10.371,7.648 10.93,7.852
3D body: height 7, standoff 0, extent 10.269,7.648 10.371,7.852
3D body: height 0.1, standoff 0, extent 10.371,8.148 10.93,8.352
3D body: height 7, standoff 0, extent 10.269,8.148 10.371,8.352
3D body: height 0.1, standoff 0, extent 10.371,8.648 10.93,8.852
3D body: height 7, standoff 0, extent 10.269,8.648 10.371,8.852
3D body: height 7, standoff 0, extent 8.648,10.269 8.852,10.371
3D body: height 0.1, standoff 0, extent 8.648,10.371 8.852,10.93
3D body: height 0.1, standoff 0, extent 8.148,10.371 8.352,10.93
3D body: height 7, standoff 0, extent 8.148,10.269 8.352,10.371
3D body: height 0.1, standoff 0, extent 7.648,10.371 7.852,10.93
3D body: height 7, standoff 0, extent 7.648,10.269 7.852,10.371
3D body: height 0.1, standoff 0, extent 7.148,10.371 7.352,10.93
3D body: height 7, standoff 0, extent 7.148,10.269 7.352,10.371
3D body: height 0.1, standoff 0, extent 6.648,10.371 6.852,10.93
3D body: height 7, standoff 0, extent 6.648,10.269 6.852,10.371
3D body: height 0.1, standoff 0, extent 6.148,10.371 6.352,10.93
3D body: height 7, standoff 0, extent 6.148,10.269 6.352,10.371
3D body: height 0.1, standoff 0, extent 6.148,10.371 6.352,10.93
3D body: height 7, standoff 0, extent 6.148,10.269 6.352,10.371
3D body: height 0.1, standoff 0, extent 5.648,10.371 5.852,10.93
3D body: height 7, standoff 0, extent 5.648,10.269 5.852,10.371
3D body: height 0.1, standoff 0, extent 5.148,10.371 5.352,10.93
3D body: height 7, standoff 0, extent 5.148,10.269 5.352,10.371
3D body: height 0.1, standoff 0, extent 4.648,10.371 4.852,10.93
3D body: height 7, standoff 0, extent 4.648,10.269 4.852,10.371
3D body: height 0.1, standoff 0, extent 4.148,10.371 4.352,10.93
3D body: height 7, standoff 0, extent 4.148,10.269 4.352,10.371
3D body: height 0.1, standoff 0, extent 3.648,10.371 3.852,10.93
3D body: height 7, standoff 0, extent 3.648,10.269 3.852,10.371
3D body: height 0.1, standoff 0, extent 3.148,10.371 3.352,10.93
3D body: height 7, standoff 0, extent 3.148,10.269 3.352,10.371
3D body: height 0.1, standoff 0, extent 2.648,10.371 2.852,10.93
3D body: height 7, standoff 0, extent 2.648,10.269 2.852,10.371
3D body: height 0.1, standoff 0, extent 2.148,10.371 2.352,10.93
3D body: height 7, standoff 0, extent 2.148,10.269 2.352,10.371
3D body: height 0.1, standoff 0, extent 1.648,10.371 1.852,10.93
3D body: height 7, standoff 0, extent 1.648,10.269 1.852,10.371
3D body: height 0.1, standoff 0, extent 1.148,10.371 1.352,10.93
3D body: height 7, standoff 0, extent 1.148,10.269 1.352,10.371
3D body: height 0.1, standoff 0, extent 0.648,10.371 0.852,10.93
3D body: height 7, standoff 0, extent 0.648,10.269 0.852,10.371
3D body: height 0.1, standoff 0, extent 0.148,10.371 0.352,10.93
3D body: height 7, standoff 0, extent 0.148,10.269 0.352,10.371
3D body: height 0.1, standoff 0, extent -0.352,10.371 -0.148,10.93
3D body: height 7, standoff 0, extent -0.352,10.269 -0.148,10.371
3D body: height 0.1, standoff 0, extent -0.852,10.371 -0.648,10.93
3D body: height 7, standoff 0, extent -0.852,10.269 -0.648,10.371
3D body: height 0.1, standoff 0, extent -1.352,10.371 -1.148,10.93
3D body: height 7, standoff 0, extent -1.352,10.269 -1.148,10.371
3D body: height 0.1, standoff 0, extent -1.852,10.371 -1.648,10.93
3D body: height 7, standoff 0, extent -1.852,10.269 -1.648,10.371
3D body: height 0.1, standoff 0, extent -2.352,10.371 -2.148,10.93
3D body: height 7, standoff 0, extent -2.352,10.269 -2.148,10.371
3D body: height 0.1, standoff 0, extent -2.852,10.371 -2.648,10.93
3D body: height 7, standoff 0, extent -2.852,10.269 -2.648,10.371
3D body: height 0.1, standoff 0, extent -3.352,10.371 -3.148,10.93
3D body: height 7, standoff 0, extent -3.352,10.269 -3.148,10.371
3D body: height 0.1, standoff 0, extent -3.852,10.371 -3.648,10.93
3D body: height 7, standoff 0, extent -3.852,10.269 -3.648,10.371
3D body: height 0.1, standoff 0, extent -4.352,10.371 -4.148,10.93
3D body: height 7, standoff 0, extent -4.352,10.269 -4.148,10.371
3D body: height 0.1, standoff 0, extent -4.852,10.371 -4.648,10.93
3D body: height 7, standoff 0, extent -4.852,10.269 -4.648,10.371
3D body: height 0.1, standoff 0, extent -5.352,10.371 -5.148,10.93
3D body: height 7, standoff 0, extent -5.352,10.269 -5.148,10.371
3D body: height 0.1, standoff 0, extent -5.852,10.371 -5.648,10.93
3D body: height 7, standoff 0, extent -5.852,10.269 -5.648,10.371
3D body: height 0.1, standoff 0, extent -6.352,10.371 -6.148,10.93
3D body: height 7, standoff 0, extent -6.352,10.269 -6.148,10.371
3D body: height 0.1, standoff 0, extent -6.852,10.371 -6.648,10.93
3D body: height 7, standoff 0, extent -6.852,10.269 -6.648,10.371
3D body: height 0.1, standoff 0, extent -7.352,10.371 -7.148,10.93
3D body: height 7, standoff 0, extent -7.352,10.269 -7.148,10.371
3D body: height 0.1, standoff 0, extent -7.852,10.371 -7.648,10.93
3D body: height 7, standoff 0, extent -7.852,10.269 -7.648,10.371
3D body: height 0.1, standoff 0, extent -8.352,10.371 -8.148,10.93
3D body: height 7, standoff 0, extent -8.352,10.269 -8.148,10.371
3D body: height 0.1, standoff 0, extent -8.852,10.371 -8.648,10.93
3D body: height 7, standoff 0, extent -8.852,10.269 -8.648,10.371
3D body: height 7, standoff 0, extent -10.371,8.648 -10.269,8.852
3D body: height 0.1, standoff 0, extent -10.93,8.648 -10.371,8.852
3D body: height 0.1, standoff 0, extent -10.93,8.148 -10.371,8.352
3D body: height 7, standoff 0, extent -10.371,8.148 -10.269,8.352
3D body: height 0.1, standoff 0, extent -10.93,7.648 -10.371,7.852
3D body: height 7, standoff 0, extent -10.371,7.648 -10.269,7.852
3D body: height 0.1, standoff 0, extent -10.93,7.148 -10.371,7.352
3D body: height 7, standoff 0, extent -10.371,7.148 -10.269,7.352
3D body: height 0.1, standoff 0, extent -10.93,6.648 -10.371,6.852
3D body: height 7, standoff 0, extent -10.371,6.648 -10.269,6.852
3D body: height 0.1, standoff 0, extent -10.93,6.148 -10.371,6.352
3D body: height 7, standoff 0, extent -10.371,6.148 -10.269,6.352
3D body: height 0.1, standoff 0, extent -10.93,6.148 -10.371,6.352
3D body: height 7, standoff 0, extent -10.371,6.148 -10.269,6.352
3D body: height 0.1, standoff 0, extent -10.93,5.648 -10.371,5.852
3D body: height 7, standoff 0, extent -10.371,5.648 -10.269,5.852
3D body: height 0.1, standoff 0, extent -10.93,5.148 -10.371,5.352
3D body: height 7, standoff 0, extent -10.371,5.148 -10.269,5.352
3D body: height 0.1, standoff 0, extent -10.93,4.648 -10.371,4.852
3D body: height 7, standoff 0, extent -10.371,4.648 -10.269,4.852
3D body: height 0.1, standoff 0, extent -10.93,4.148 -10.371,4.352
3D body: height 7, standoff 0, extent -10.371,4.148 -10.269,4.352
3D body: height 0.1, standoff 0, extent -10.93,3.648 -10.371,3.852
3D body: height 7, standoff 0, extent -10.371,3.648 -10.269,3.852
3D body: height 0.1, standoff 0, extent -10.93,3.148 -10.371,3.352
3D body: height 7, standoff 0, extent -10.371,3.148 -10.269,3.352
3D body: height 0.1, standoff 0, extent -10.93,2.648 -10.371,2.852
3D body: height 7, standoff 0, extent -10.371,2.648 -10.269,2.852
3D body: height 0.1, standoff 0, extent -10.93,2.148 -10.371,2.352
3D body: height 7, standoff 0, extent -10.371,2.148 -10.269,2.352
3D body: height 0.1, standoff 0, extent -10.93,1.648 -10.371,1.852
3D body: height 7, standoff 0, extent -10.371,1.648 -10.269,1.852
3D body: height 0.1, standoff 0, extent -10.93,1.148 -10.371,1.352
3D body: height 7, standoff 0, extent -10.371,1.148 -10.269,1.352
3D body: height 0.1, standoff 0, extent -10.93,0.648 -10.371,0.852
3D body: height 7, standoff 0, extent -10.371,0.648 -10.269,0.852
3D body: height 0.1, standoff 0, extent -10.93,0.148 -10.371,0.352
3D body: height 7, standoff 0, extent -10.371,0.148 -10.269,0.352
3D body: height 0.1, standoff 0, extent -10.93,-0.352 -10.371,-0.148
3D body: height 7, standoff 0, extent -10.371,-0.352 -10.269,-0.148
3D body: height 0.1, standoff 0, extent -10.93,-0.852 -10.371,-0.648
3D body: height 7, standoff 0, extent -10.371,-0.852 -10.269,-0.648
3D body: height 0.1, standoff 0, extent -10.93,-1.352 -10.371,-1.148
3D body: height 7, standoff 0, extent -10.371,-1.352 -10.269,-1.148
3D body: height 0.1, standoff 0, extent -10.93,-1.852 -10.371,-1.648
3D body: height 7, standoff 0, extent -10.371,-1.852 -10.269,-1.648
3D body: height 0.1, standoff 0, extent -10.93,-2.352 -10.371,-2.148
3D body: height 7, standoff 0, extent -10.371,-2.352 -10.269,-2.148
3D body: height 0.1, standoff 0, extent -10.93,-2.852 -10.371,-2.648
3D body: height 7, standoff 0, extent -10.371,-2.852 -10.269,-2.648
3D body: height 0.1, standoff 0, extent -10.93,-3.352 -10.371,-3.148
3D body: height 7, standoff 0, extent -10.371,-3.352 -10.269,-3.148
3D body: height 0.1, standoff 0, extent -10.93,-3.852 -10.371,-3.648
3D body: height 7, standoff 0, extent -10.371,-3.852 -10.269,-3.648
3D body: height 0.1, standoff 0, extent -10.93,-4.352 -10.371,-4.148
3D body: height 7, standoff 0, extent -10.371,-4.352 -10.269,-4.148
3D body: height 0.1, standoff 0, extent -10.93,-4.852 -10.371,-4.648
3D body: height 7, standoff 0, extent -10.371,-4.852 -10.269,-4.648
3D body: height 0.1, standoff 0, extent -10.93,-5.352 -10.371,-5.148
3D body: height 7, standoff 0, extent -10.371,-5.352 -10.269,-5.148
3D body: height 0.1, standoff 0, extent -10.93,-5.852 -10.371,-5.648
3D body: height 7, standoff 0, extent -10.371,-5.852 -10.269,-5.648
3D body: height 0.1, standoff 0, extent -10.93,-6.352 -10.371,-6.148
3D body: height 7, standoff 0, extent -10.371,-6.352 -10.269,-6.148
3D body: height 0.1, standoff 0, extent -10.93,-6.852 -10.371,-6.648
3D body: height 7, standoff 0, extent -10.371,-6.852 -10.269,-6.648
3D body: height 0.1, standoff 0, extent -10.93,-7.352 -10.371,-7.148
3D body: height 7, standoff 0, extent -10.371,-7.352 -10.269,-7.148
3D body: height 0.1, standoff 0, extent -10.93,-7.852 -10.371,-7.648
3D body: height 7, standoff 0, extent -10.371,-7.852 -10.269,-7.648
3D body: height 0.1, standoff 0, extent -10.93,-8.352 -10.371,-8.148
3D body: height 7, standoff 0, extent -10.371,-8.352 -10.269,-8.148
3D body: height 0.1, standoff 0, extent -10.93,-8.852 -10.371,-8.648
3D body: height 7, standoff 0, extent -10.371,-8.852 -10.269,-8.648
3D body: height 7, standoff 0, extent 8.648,-10.371 8.852,-10.269
3D body: height 0.1, standoff 0, extent 8.648,-10.93 8.852,-10.371
3D body: height 7, standoff 0, extent 8.148,-10.371 8.352,-10.269
3D body: height 0.1, standoff 0, extent 8.148,-10.93 8.352,-10.371
3D body: height 7, standoff 0, extent 7.648,-10.371 7.852,-10.269
3D body: height 0.1, standoff 0, extent 7.648,-10.93 7.852,-10.371
3D body: height 7, standoff 0, extent 7.148,-10.371 7.352,-10.269
3D body: height 0.1, standoff 0, extent 7.148,-10.93 7.352,-10.371
3D body: height 7, standoff 0, extent 6.648,-10.371 6.852,-10.269
3D body: height 0.1, standoff 0, extent 6.648,-10.93 6.852,-10.371
3D body: height 7, standoff 0, extent 6.148,-10.371 6.352,-10.269
3D body: height 0.1, standoff 0, extent 6.148,-10.93 6.352,-10.371
3D body: height 7, standoff 0, extent 5.648,-10.371 5.852,-10.269
3D body: height 0.1, standoff 0, extent 5.648,-10.93 5.852,-10.371
3D body: height 7, standoff 0, extent 5.148,-10.371 5.352,-10.269
3D body: height 0.1, standoff 0, extent 5.148,-10.93 5.352,-10.371
3D body: height 7, standoff 0, extent 4.648,-10.371 4.852,-10.269
3D body: height 0.1, standoff 0, extent 4.648,-10.93 4.852,-10.371
3D body: height 7, standoff 0, extent 4.148,-10.371 4.352,-10.269
3D body: height 0.1, standoff 0, extent 4.148,-10.93 4.352,-10.371
3D body: height 7, standoff 0, extent 3.648,-10.371 3.852,-10.269
3D body: height 0.1, standoff 0, extent 3.648,-10.93 3.852,-10.371
3D body: height 7, standoff 0, extent 3.148,-10.371 3.352,-10.269
3D body: height 0.1, standoff 0, extent 3.148,-10.93 3.352,-10.371
3D body: height 7, standoff 0, extent 2.648,-10.371 2.852,-10.269
3D body: height 0.1, standoff 0, extent 2.648,-10.93 2.852,-10.371
3D body: height 7, standoff 0, extent 2.148,-10.371 2.352,-10.269
3D body: height 0.1, standoff 0, extent 2.148,-10.93 2.352,-10.371
3D body: height 7, standoff 0, extent 1.648,-10.371 1.852,-10.269
3D body: height 0.1, standoff 0, extent 1.648,-10.93 1.852,-10.371
3D body: height 7, standoff 0, extent 1.148,-10.371 1.352,-10.269
3D body: height 0.1, standoff 0, extent 1.148,-10.93 1.352,-10.371
3D body: height 7, standoff 0, extent 0.648,-10.371 0.852,-10.269
3D body: height 0.1, standoff 0, extent 0.648,-10.93 0.852,-10.371
3D body: height 7, standoff 0, extent 0.148,-10.371 0.352,-10.269
3D body: height 0.1, standoff 0, extent 0.148,-10.93 0.352,-10.371
3D body: height 7, standoff 0, extent -0.352,-10.371 -0.148,-10.269
3D body: height 0.1, standoff 0, extent -0.352,-10.93 -0.148,-10.371
3D body: height 7, standoff 0, extent -0.852,-10.371 -0.648,-10.269
3D body: height 0.1, standoff 0, extent -0.852,-10.93 -0.648,-10.371
3D body: height 7, standoff 0, extent -1.352,-10.371 -1.148,-10.269
3D body: height 0.1, standoff 0, extent -1.352,-10.93 -1.148,-10.371
3D body: height 7, standoff 0, extent -1.852,-10.371 -1.648,-10.269
3D body: height 0.1, standoff 0, extent -1.852,-10.93 -1.648,-10.371
3D body: height 7, standoff 0, extent -2.352,-10.371 -2.148,-10.269
3D body: height 0.1, standoff 0, extent -2.352,-10.93 -2.148,-10.371
3D body: height 7, standoff 0, extent -2.852,-10.371 -2.648,-10.269
3D body: height 0.1, standoff 0, extent -2.852,-10.93 -2.648,-10.371
3D body: height 7, standoff 0, extent -3.352,-10.371 -3.148,-10.269
3D body: height 0.1, standoff 0, extent -3.352,-10.93 -3.148,-10.371
3D body: height 7, standoff 0, extent -3.852,-10.371 -3.648,-10.269
3D body: height 0.1, standoff 0, extent -3.852,-10.93 -3.648,-10.371
3D body: height 7, standoff 0, extent -4.352,-10.371 -4.148,-10.269
3D body: height 0.1, standoff 0, extent -4.352,-10.93 -4.148,-10.371
3D body: height 7, standoff 0, extent -4.852,-10.371 -4.648,-10.269
3D body: height 0.1, standoff 0, extent -4.852,-10.93 -4.648,-10.371
3D body: height 7, standoff 0, extent -5.352,-10.371 -5.148,-10.269
3D body: height 0.1, standoff 0, extent -5.352,-10.93 -5.148,-10.371
3D body: height 7, standoff 0, extent -5.852,-10.371 -5.648,-10.269
3D body: height 0.1, standoff 0, extent -5.852,-10.93 -5.648,-10.371
3D body: height 7, standoff 0, extent -6.352,-10.371 -6.148,-10.269
3D body: height 0.1, standoff 0, extent -6.352,-10.93 -6.148,-10.371
3D body: height 7, standoff 0, extent -6.352,-10.371 -6.148,-10.269
3D body: height 0.1, standoff 0, extent -6.352,-10.93 -6.148,-10.371
3D body: height 7, standoff 0, extent -6.852,-10.371 -6.648,-10.269
3D body: height 0.1, standoff 0, extent -6.852,-10.93 -6.648,-10.371
3D body: height 7, standoff 0, extent -7.352,-10.371 -7.148,-10.269
3D body: height 0.1, standoff 0, extent -7.352,-10.93 -7.148,-10.371
3D body: height 7, standoff 0, extent -7.852,-10.371 -7.648,-10.269
3D body: height 0.1, standoff 0, extent -7.852,-10.93 -7.648,-10.371
3D body: height 7, standoff 0, extent -8.352,-10.371 -8.148,-10.269
3D body: height 0.1, standoff 0, extent -8.352,-10.93 -8.148,-10.371
3D body: height 0.1, standoff 0, extent -8.852,-10.93 -8.648,-10.371
3D body: height 7, standoff 0, extent -8.852,-10.371 -8.648,-10.269
3D body: height 7, standoff 0, extent 9.931,9.931 11.989,11.989
3D body: height 7, standoff 0, extent 9.931,-11.989 11.989,-9.931
3D body: height 7, standoff 0, extent -11.989,-11.989 -9.931,-9.931
3D body: height 7, standoff 0, extent -11.989,9.931 -9.931,11.989
3D body: height 10, standoff 6.3, extent -17.11,-17.105 17.09,17.095
3D body: height 6, standoff -1, extent -0.595,7.401 0.6,8.599
3D body: height 6, standoff -1, extent -0.595,-8.599 0.6,-7.401
3D body: height 12.4, standoff 12.3, extent -15.231,10.256 -10.251,15.246
3D body: height 12.4, standoff 12.3, extent 10.256,10.251 15.246,15.231
3D body: height 12.4, standoff 12.3, extent -15.246,-15.231 -10.256,-10.251
3D body: height 12.4, standoff 12.3, extent 10.251,-15.246 15.231,-10.256
3D body: height 14.3, standoff 10.3, extent 10.778,10.709 14.757,14.691
3D body: height 14.3, standoff 10.3, extent -14.723,10.759 -10.744,14.742
3D body: height 14.3, standoff 10.3, extent -14.679,-14.767 -10.7,-10.785
3D body: height 14.3, standoff 10.3, extent 10.772,-14.742 14.751,-10.759
3D body: height 10, standoff 0, extent -17.1,12.09 -12.09,17.109
3D body: height 10, standoff 0, extent 12.065,12.09 17.109,17.1
3D body: height 10, standoff 0, extent 12.09,-17.109 17.1,-12.09
3D body: height 10, standoff 0, extent -17.109,-17.1 -12.109,-12.092
3D body: height 12.3, standoff 10.3, extent -17.099,-17.083 0.001,17.121
3D body: height 12.3, standoff 10.3, extent -0.022,-17.083 17.078,17.121